# EAGLE library part LT1079 (library EAG)
OP AMP Standard quad package
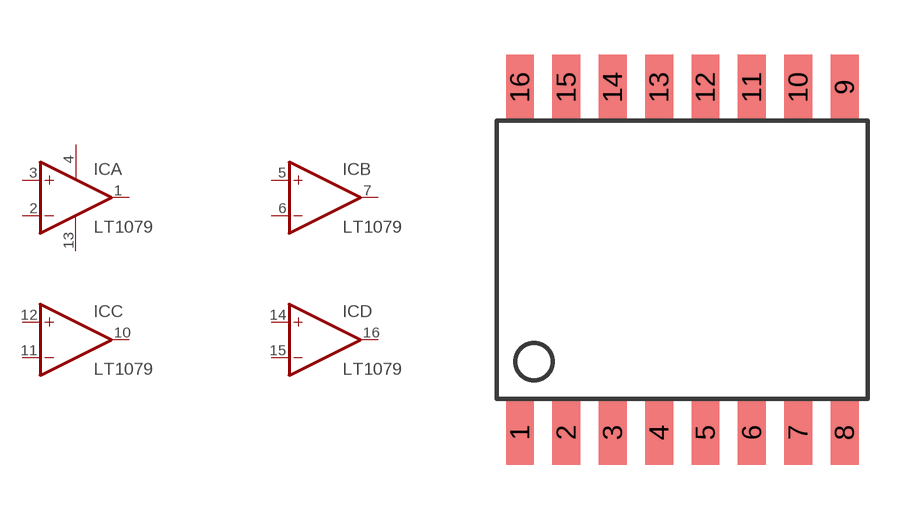
[diagram p2: symbol with the pads of 16-SOIC; footprint 16-SOIC]

Designator prefix IC; gates A=OPAMP B=OPAMP C=OPAMP D=OPAMP P=PWR+-

## LT1079  [16-SOIC]
1  A:OUT  out
2  A:-IN  in
3  A:+IN  in
4  P:V+  pwr
5  B:+IN  in
6  B:-IN  in
7  B:OUT  out
10  C:OUT  out
11  C:-IN  in
12  C:+IN  in
13  P:V-  pwr
14  D:+IN  in
15  D:-IN  in
16  D:OUT  out

## Footprint 16-SOIC (pad centres in mm)
16 pin SOIC footprint for the Linear LT1079
smd 0.762 x 1.778: 1 -4.445,-4.731; 2 -3.175,-4.731; 3 -1.905,-4.731; 4 -0.635,-4.731; 5 0.635,-4.731; 6 1.905,-4.731; 7 3.175,-4.731; 8 4.445,-4.731; 9 4.445,4.731; 10 3.175,4.731; 11 1.905,4.731; 12 0.635,4.731; 13 -0.635,4.731; 14 -1.905,4.731; 15 -3.175,4.731; 16 -4.445,4.731